# Altium schematic symbol library CONN - Connectors.SchLib: 3 symbols
Pins are listed as number, name and electrical type; pins without a type are passive.

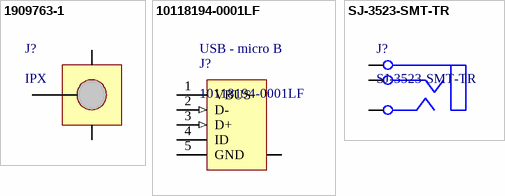
[diagram p0: symbols 1909763-1 to SJ-3523-SMT-TR]

## 1909763-1
designator J?, comment IPX
CONN UMCC JACK STR 50OHM IPX SMD; Manufacturer: TE Connectivity AMP Connectors; Manufacturer Part Number: 1909763-1; Connector Style: Ultra Miniature Coaxial; Connector Type: Jack, Male Pin; Contact Termination: Solder; Frequency - Max: 6GHz; Includes: 1 pc - 1 Connector; Body Material: Copper Alloy; Body Finish: Gold; Dielectric Material: Liquid Crystal Polymer (LCP); Voltage Rating: 60V; Mating Cycles: 30; Insertion Loss: 0.24dB; Supplier 1: Digi-Key; Supplier Part Number 1: A118077CT-ND; RoHS: RoHS Compliant; Category: Connectors, Interconnects; Stock 1: 68594; Pricing 1: 1=0.54, 10=0.508, 25=0.4572, 50=0.4066, 100=0.3896, 250=0.35576, 500=0.3388, 1000=0.27951, 2500=0.2541 (USD); Packaging: Cut Tape (CT); Part Status: Active; Shield Termination: Solder; Impedance: 50 Ohm; Mounting Type: Surface Mount; Mounting Feature: -; Cable Group: -; Fastening Type: Snap-On; Features: -; Housing Color: Ivory; Ingress Protection: -; Center Contact Plating: Gold; Operating Temperature: -40°C ~ 90°C; Center Contact Material: Copper Alloy; ComponentLink1URL: http://www.te.com/commerce/DocumentDelivery/DDEController?Action=srchrtrv&DocNm=1909763&DocType=Customer+Drawing&DocLang=English; ComponentLink1Description: http://www.te.com/commerce/DocumentDelivery/DDEController?Action=srchrtrv&DocNm=1909763&DocType=Customer+Drawing&DocLang=English
footprint CONN/IPX/SMD
pins: 1 SIG, 2 G1, 3 G2

## 10118194-0001LF
designator J?  Connector Type: USB - micro B
CONN USB MICRO B RECPT SMT R/A; Manufacturer: Amphenol FCI; Number of Contacts: 5; Gender: Receptacle; Specifications: USB 2.0; Number of Ports: 1; Current Rating: 1.8A per Contact; Voltage - Rated: 100VAC; Mating Cycles: 10000; Shielding: Shielded; Material Flammability Rating: UL94 V-0; Supplier 1: Digi-Key; Supplier Part Number 1: 609-4618-1-ND; Manufacturer Part Number: 10118194-0001LF; RoHS: RoHS Compliant; Category: Connectors, Interconnects; Stock 1: 275678; Pricing 1: 1=0.46, 10=0.437, 25=0.3744, 50=0.318, 100=0.3056, 250=0.27444, 500=0.26196 (USD); Packaging: Cut Tape (CT); Part Status: Active; Mounting Type: Surface Mount, Right Angle; Through Hole; Mounting Feature: Horizontal; Termination: Solder; Features: Solder Retention; Ingress Protection: -; Operating Temperature: -30°C ~ 80°C; Contact Finish: Gold; Shell/Shielding Material: Steel, Stainless; Insulation Color: Black; ComponentLink1URL: http://portal.fciconnect.com/Comergent//fci/drawing/10118194.pdf; ComponentLink1Description: http://portal.fciconnect.com/Comergent//fci/drawing/10118194.pdf
footprint CONN/USB/10118194-0001LF (USB - micro B USB 2.0 Receptacle Connector 5 Position Surface Mount, Right Angle, Horizontal)
pins: 1 VBUS (power) "Power", 2 D- (in) "-DATA", 3 D+ (in) "+DATA", 4 ID, 5 GND (power) "Ground", SHLD "Shield"

## SJ-3523-SMT-TR
designator J?
CONN JACK STEREO 3.5MM SMD R/A; Manufacturer: CUI Inc.; Connector Type: Phone Jack; Gender: Female; Industry Recognized Mating Diameter: 3.50mm (0.141", 1/8", Mini Plug) - Headphone; Actual Diameter: 0.142" (3.60mm); Number of Positions/Contacts: 3 Conductors, 3 Contacts; Internal Switch(s): Does Not Contain Switch; Shielding: Unshielded; Voltage - Rated: 12VDC; Current Rating: 1A; Mating Length/Depth: 0.551" (14.00mm); Body Color: Black; Includes: 1 pc - 1 Connector; Supplier 1: Digi-Key; Supplier Part Number 1: CP-3523SJCT-ND; Manufacturer Part Number: SJ-3523-SMT-TR; RoHS: RoHS Compliant; Category: Connectors, Interconnects; Stock 1: 26601; Pricing 1: 1=1.02, 10=0.9, 25=0.8476, 50=0.8122, 100=0.7768, 250=0.7062, 500=0.63558 (USD); Packaging: Cut Tape (CT); Part Status: Active; Signal Lines: Stereo; Mounting Type: Surface Mount, Right Angle; Termination: Solder; Features: Board Guide; Insulation Color: -; Contact Material - Plating: Silver; Body Material: -; Housing Material: Polyamide (PA6T), Nylon 6T; Contact Material: Brass; Copper Alloy; Cable Opening: -; Panel Hole Size: -; Thread Size: -; Operating Temperature: -25°C ~ 85°C; ComponentLink1URL: http://www.cui.com/product/resource/digikeypdf/sj-352x-smt_series.pdf; ComponentLink1Description: http://www.cui.com/product/resource/digikeypdf/sj-352x-smt_series.pdf
footprint CONN/SJ-3523-SMT-TR (3.50mm (0.141", 1/8", Mini Plug) - Headphone Phone Jack Stereo Connector Solder)
pins: 1 sleeve, 2 tip, 3 ring